# Altium footprint library tsop.PcbLib: 2 footprints
Each footprint in its own frame and in the unit in brackets; x right, y up, seen from the top. Pads: shape width x height; smd on the part's side, far side on the other; paste and mask are expansions set on the pad; w line width, h text height; cw(c..) or ccw(c..) is an arc to the next point about the centre after c.
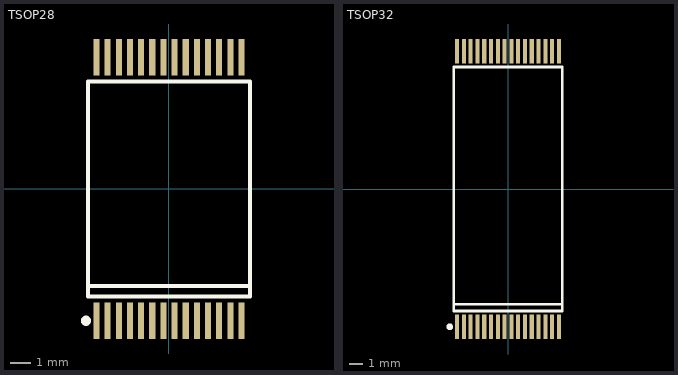
[diagram p0: the footprints below, top view; thin cyan lines are the x and y axes]

## TSOP28 [mm] "28-lead (8 x 13.4 mm) Plastic Thin Small Outline  Package"
height 1.2
pads (28):
  rect 0.3x1.8 smd: 1(-3.575,-6.5) 2(-3.025,-6.5) 3(-2.475,-6.5) 4(-1.925,-6.5) 5(-1.375,-6.5) 6(-0.825,-6.5) 7(-0.275,-6.5) 8(0.275,-6.5) 9(0.825,-6.5) 10(1.375,-6.5) 11(1.925,-6.5) 12(2.475,-6.5) 13(3.025,-6.5) 14(3.575,-6.5) 15(3.575,6.5) 16(3.025,6.5) 17(2.475,6.5) 18(1.925,6.5) 19(1.375,6.5) 20(0.825,6.5) 21(0.275,6.5) 22(-0.275,6.5) 23(-0.825,6.5) 24(-1.375,6.5) 25(-1.925,6.5) 26(-2.475,6.5) 27(-3.025,6.5) 28(-3.575,6.5)
Top Overlay:
  circle w0.25: c-4.1,-6.5 r0.125
  lines w0.2: -4,-4.792 4,-4.792 ; -4,-5.3 4,-5.3 4,5.3 -4,5.3 -4,-5.3
3D body: height 1.2, standoff 0, extent -4,-6.7 4,6.7

## TSOP32 [mm] "32-lead (8 x 20 mm) Plastic Thin Small Outline  Package"
height 1.2
pads (32):
  rect 0.3x1.8 smd: 1(-3.75,-10.16) 2(-3.25,-10.16) 3(-2.75,-10.16) 4(-2.25,-10.16) 5(-1.75,-10.16) 6(-1.25,-10.16) 7(-0.75,-10.16) 8(-0.25,-10.16) 9(0.25,-10.16) 10(0.75,-10.16) 11(1.25,-10.16) 12(1.75,-10.16) 13(2.25,-10.16) 14(2.75,-10.16) 15(3.25,-10.16) 16(3.75,-10.16) 17(3.75,10.16) 18(3.25,10.16) 19(2.75,10.16) 20(2.25,10.16) 21(1.75,10.16) 22(1.25,10.16) 23(0.75,10.16) 24(0.25,10.16) 25(-0.25,10.16) 26(-0.75,10.16) 27(-1.25,10.16) 28(-1.75,10.16) 29(-2.25,10.16) 30(-2.75,10.16) 31(-3.25,10.16) 32(-3.75,10.16)
Top Overlay:
  circle w0.25: c-4.3,-10.16 r0.125
  lines w0.2: -4,-8.5 4,-8.5 ; -4,-9 -4,9 4,9 4,-9 -4,-9